# Altium schematic symbol library K78xxM-1000R3 负输出.SchLib: 1 symbol
Pins are listed as number, name and electrical type; pins without a type are passive.

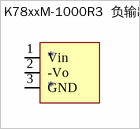
[diagram p0: symbol K78xxM-1000R3  负输出]

## K78xxM-1000R3  负输出
designator *
footprint K78xxM-1000R3 负输出
pins: 1 Vin, 2 -Vo, 3 GND